# Altium schematic symbol library ONSEMI_NL27WZ02.SchLib: 1 symbol
Pins are listed as number, name and electrical type; pins without a type are passive.

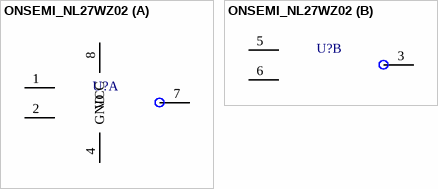
[diagram p0: symbol ONSEMI_NL27WZ02]

## ONSEMI_NL27WZ02
designator U?  (value not drawn)
2CH 2IN NOR; Supplier 1: Digikey; Supplier Part Number 1: NL27WZ02USGOSDKR-ND
footprint TSSOP50P310X90-8N (TSSOP, 8-Leads, Body 2.00x2.30mm, Pitch 0.50mm, IPC Medium Density)
part A pins: 1, 2, 4 GND, 7, 8 VCC
part B pins: 3, 5, 6